# Altium footprint library Board_nonBGA.PcbLib: 21 footprints (part 1 of 2)
Each footprint in its own frame and in the unit in brackets; x right, y up, seen from the top. Pads: shape width x height; smd on the part's side, far side on the other; paste and mask are expansions set on the pad; w line width, h text height; cw(c..) or ccw(c..) is an arc to the next point about the centre after c.
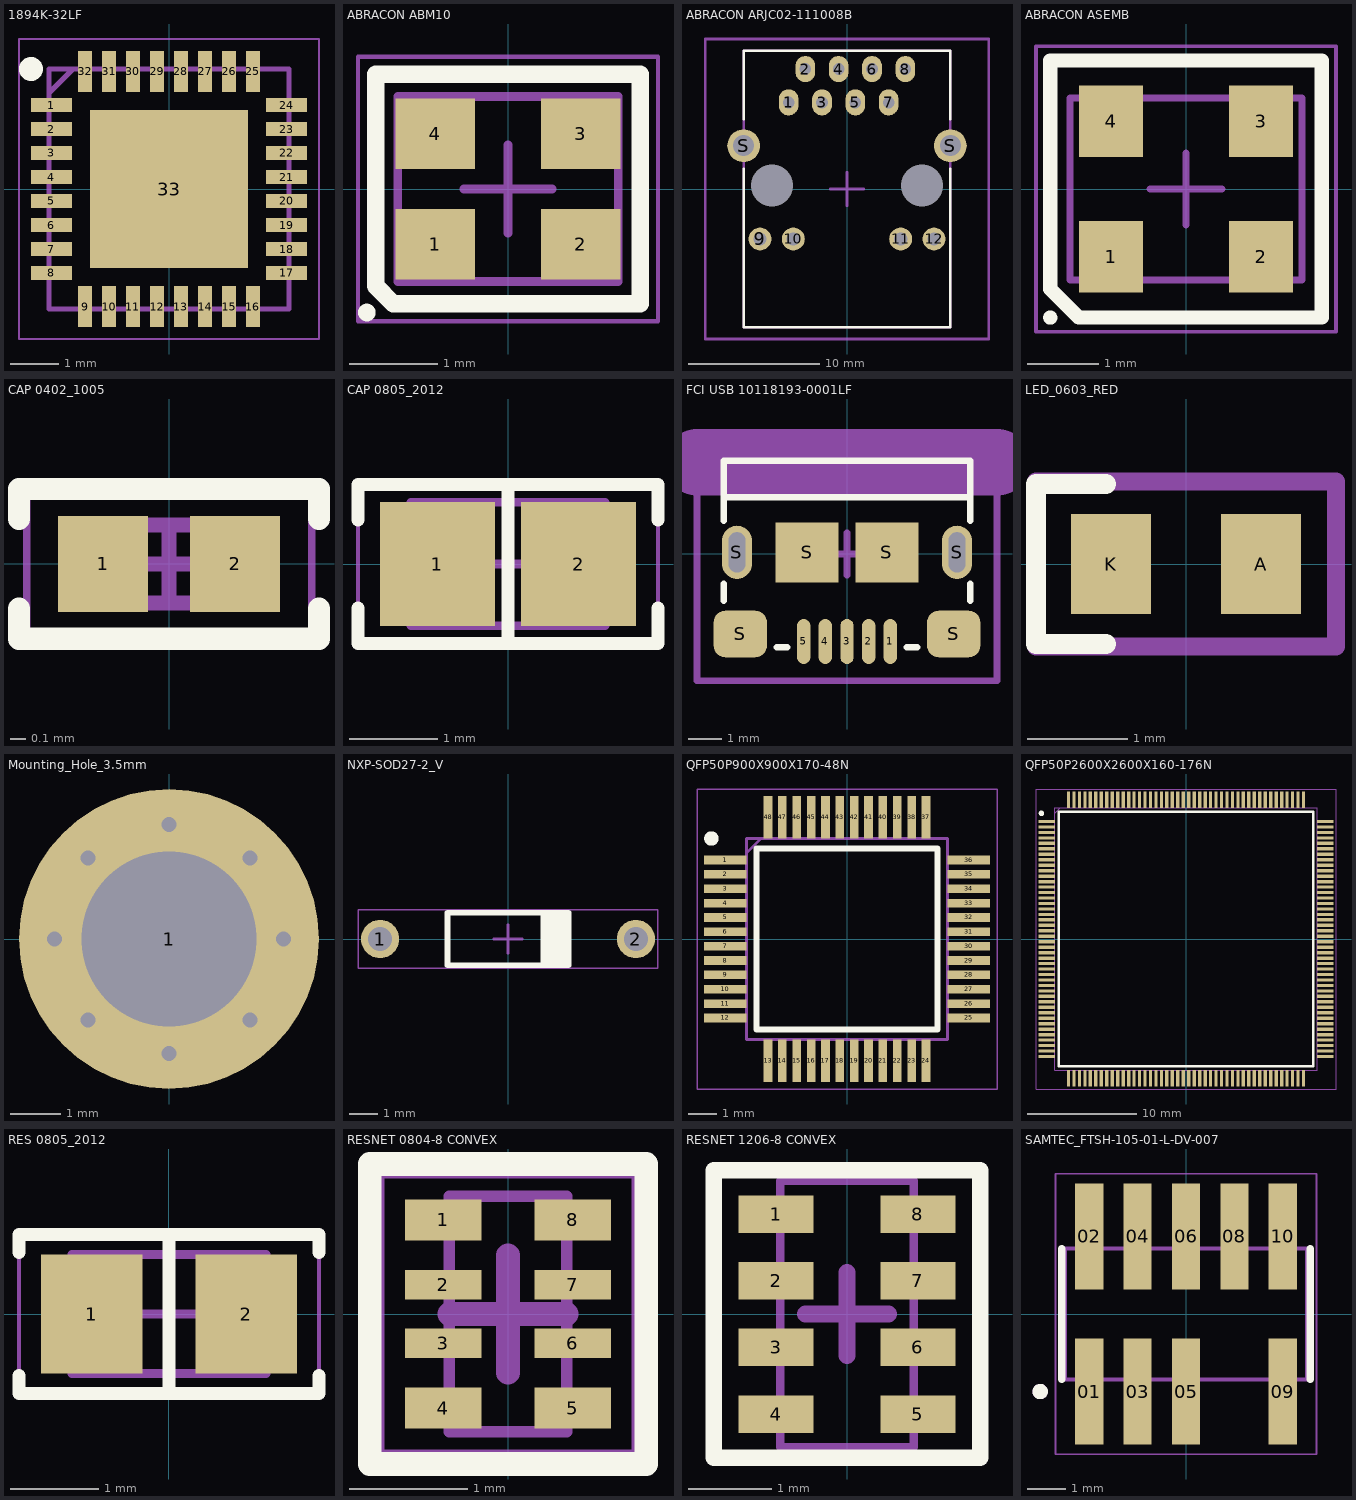
[diagram p0: the footprints below, top view; thin cyan lines are the x and y axes]

## 1894K-32LF [mm]
pads (33):
  rect 0.85x0.3 smd: 1(-2.45,1.75) 2(-2.45,1.25) 3(-2.45,0.75) 4(-2.45,0.25) 5(-2.45,-0.25) 6(-2.45,-0.75) 7(-2.45,-1.25) 8(-2.45,-1.75) 17(2.45,-1.75) 18(2.45,-1.25) 19(2.45,-0.75) 20(2.45,-0.25) 21(2.45,0.25) 22(2.45,0.75) 23(2.45,1.25) 24(2.45,1.75)
  rect 0.3x0.85 smd: 9(-1.75,-2.45) 10(-1.25,-2.45) 11(-0.75,-2.45) 12(-0.25,-2.45) 13(0.25,-2.45) 14(0.75,-2.45) 15(1.25,-2.45) 16(1.75,-2.45) 25(1.75,2.45) 26(1.25,2.45) 27(0.75,2.45) 28(0.25,2.45) 29(-0.25,2.45) 30(-0.75,2.45) 31(-1.25,2.45) 32(-1.75,2.45)
  rect 3.3x3.3 smd: 33(0,0)
Top Overlay:
  circle w0.25: c-2.875,2.5 r0.125
Mechanical 15:
  lines w0.1: -2.5,2 -2,2.5 ; -2.5,-2.5 -2.5,2.5 2.5,2.5 2.5,-2.5 -2.5,-2.5
Mechanical 20:
  lines w0.05: -3.125,-3.125 -3.125,3.125 3.125,3.125 3.125,-3.125 -3.125,-3.125
3D body "1894K-32LF.stp": height 1, standoff 0, extent -2.55,-2.55 2.55,2.55

## ABRACON ABM10 [mm]
pads (4):
  rect 0.9x0.8 smd: 1(-0.825,-0.625) 2(0.825,-0.625) 3(0.825,0.625) 4(-0.825,0.625)
Top Overlay:
  circle w0.1: c-1.6,-1.4 r0.05
  lines w0.2: -1.5,-1.1 -1.5,1.3 1.5,1.3 1.5,-1.3 -1.3,-1.3 -1.5,-1.1
Mechanical 13:
  lines w0.1: -1.25,-1.05 1.25,-1.05 1.25,1.05 -1.25,1.05 -1.25,-1.05
Mechanical 15:
  lines w0.05: -1.7,-1.5 1.7,-1.5 1.7,1.5 -1.7,1.5 -1.7,-1.5
  lines w0.1: -0.5,0 0.5,0 ; 0,-0.5 0,0.5
3D body "Abracon ABM10.STEP": height 0.5, standoff 0, extent -1.275,-1.025 1.275,1.025

## ABRACON ARJC02-111008B [mm]
pads (16):
  oval 1.5x2 hole 0.9: 1(-4.445,6.6) 2(-3.175,9.14) 3(-1.905,6.6) 4(-0.635,9.14) 5(0.635,6.6) 6(1.905,9.14) 7(3.175,6.6) 8(4.445,9.14)
  round 1.75 hole 1.02: 9(-6.63,-3.81) 10(-4.09,-3.81) 11(4.09,-3.81) 12(6.63,-3.81)
  round 0 hole 3.2 unplated: M(-5.715,0.25) M(5.715,0.25)
  round 2.5 hole 1.6: S(-7.875,3.3) S(7.875,3.3)
Top Overlay:
  lines w0.2: -7.874,1.52 -7.874,-10.545 0,-10.545 7.874,-10.545 7.874,1.52 ; -7.874,5.33 -7.874,10.537 0,10.537 7.874,10.537 7.874,5.33
Mechanical 1:
  lines w0.2: -7.874,-10.545 7.874,-10.545 7.874,10.537 -7.874,10.537 -7.874,-10.545
Mechanical 15:
  lines w0.2: -1.27,0 1.27,0 ; 0,-1.27 0,1.27 ; -10.795,-11.43 10.795,-11.43 10.795,11.43 -10.795,11.43 -10.795,-11.43
3D body "Abracon ARJC02-111008B.STEP": height 16.07, standoff -3.7, extent -10.336,-10.555 10.336,10.546

## ABRACON ASEMB [mm]
pads (4):
  rect 0.9x1 smd: 1(-1.05,-0.95) 2(1.05,-0.95) 3(1.05,0.95) 4(-1.05,0.95)
Top Overlay:
  circle w0.1: c-1.9,-1.8 r0.05
  lines w0.2: -1.9,-1.4 -1.9,1.8 1.9,1.8 1.9,-1.8 -1.5,-1.8 -1.9,-1.4
Mechanical 13:
  lines w0.1: -1.625,-1.275 1.625,-1.275 1.625,1.275 -1.625,1.275 -1.625,-1.275
Mechanical 15:
  lines w0.05: -2.1,-2 2.1,-2 2.1,2 -2.1,2 -2.1,-2
  lines w0.1: -0.5,0 0.5,0 ; 0,-0.5 0,0.5
3D body: height 0.85, standoff 0, extent -1.625,-1.275 1.625,1.275

## CAP 0402_1005 [mm]
pads (2):
  rect 0.6x0.64 smd: 1(-0.44,0) 2(0.44,0)
Top Overlay:
  lines w0.15: -1,-0.3 -1,-0.5 1,-0.5 1,-0.3 ; -1,0.3 -1,0.5 1,0.5 1,0.3
Mechanical 13:
  lines w0.1: -0.515,-0.26 -0.515,0.26 0.515,0.26 0.515,-0.26 -0.515,-0.26
Mechanical 15:
  lines w0.05: -0.95,-0.5 -0.95,0.5 0.95,0.5 0.95,-0.5 -0.95,-0.5
  lines w0.1: -0.26,0 0.26,0 ; 0,-0.26 0,0.26
3D body "0402 cap.STEP": height 0.52, standoff 0, extent -0.5,-0.262 0.5,0.262

## CAP 0805_2012 [mm]
pads (2):
  rect 1.3x1.4 smd: 1(-0.8,0) 2(0.8,0)
Top Overlay:
  lines w0.15: -1.7,-0.5 -1.7,-0.9 1.7,-0.9 1.7,-0.5 ; -1.7,0.5 -1.7,0.9 1.7,0.9 1.7,0.5 ; 0,-0.9 0,0.9
Mechanical 13:
  lines w0.1: -1.1,-0.7 1.1,-0.7 1.1,0.7 -1.1,0.7 -1.1,-0.7
Mechanical 15:
  lines w0.05: -1.7,-0.95 1.7,-0.95 1.7,0.95 -1.7,0.95 -1.7,-0.95
  lines w0.1: -0.5,0 0.5,0 ; 0,-0.5 0,0.5
3D body "0805 cap.STEP": height 1.26, standoff -0.02, extent -1,-0.637 1,0.637

## FCI USB 10118193-0001LF [mm]
pads (11):
  oval 0.4x1.35 smd: 1(1.3,-2.625) 2(0.65,-2.625) 3(0,-2.625) 4(-0.65,-2.625) 5(-1.3,-2.625)
  oval 0.9x1.6 hole 0.5 slot 1.2 at 90 deg: S(-3.3,0.05) S(3.3,0.05)
  rrect50% 1.6x1.4 smd: S(-3.2,-2.4) S(3.2,-2.4)
  rect 1.9x1.8 smd: S(-1.2,0.05) S(1.2,0.05)
Top Overlay:
  lines w0.2: -3.7,-1.4 -3.7,-0.9 ; -3.7,1 -3.7,1.7 ; -2.1,-2.8 -1.8,-2.8 ; 1.8,-2.8 2.1,-2.8 ; 3.7,-1.4 3.7,-0.9 ; 3.7,1 3.7,1.7 ; -3.7,1.7 -3.7,2.8 3.7,2.8 3.7,1.7 ; -3.7,1.7 3.7,1.7
Mechanical 15:
  lines w0.2: -0.635,0 0.635,0 ; 0,-0.635 0,0.635 ; -4.5,-3.8 4.5,-3.8 4.5,3.2 -4.5,3.2 -4.5,-3.8
Mechanical 31:
  lines w2: -4.5,2.754 0,2.754 4.5,2.754
3D body "FCI USB 10118193-0001lfc.STEP": height 2.78, standoff -0.82, extent -3.929,-2.9 3.928,2.76

## LED_0603_RED [mm]
pads (2):
  rect 0.8x1 smd: A(0.75,0) K(-0.75,0)
Top Overlay:
  lines w0.2: -0.8,-0.8 -1.5,-0.8 -1.5,0.8 -0.8,0.8
Mechanical 13:
  lines w0.175: -1.5,-0.825 -1.5,0.825 1.5,0.825 1.5,-0.825 -1.5,-0.825
  text "+" at 1.317,0.608 h0.5
  text "'.Designator'" at -5.665,-0.417 h1
3D body "LED_0603_RED.step": height 0.6, standoff 0, extent -0.8,-0.4 0.8,0.4

## Mounting_Hole_3.5mm [mm]
pads (1):
  round 6 hole 3.5: 1(0,0)
via 0,2.286 diameter 0.5 hole 0.3
via -1.616,1.616 diameter 0.5 hole 0.3
via -2.286,0 diameter 0.5 hole 0.3
via -1.616,-1.616 diameter 0.5 hole 0.3
via 0,-2.286 diameter 0.5 hole 0.3
via 1.616,-1.616 diameter 0.5 hole 0.3
via 2.286,0 diameter 0.5 hole 0.3
via 1.616,1.616 diameter 0.5 hole 0.3

## NXP-SOD27-2_V [mm]
pads (2):
  round 1.35 hole 0.85: 1(-4.5,0) 2(4.5,0)
Top Overlay:
  rectangle: 1.143,-0.925 2.125,0.925
  lines w0.2: -2.125,-0.925 2.125,-0.925 2.125,0.925 -2.125,0.925 -2.125,-0.925
Mechanical 13:
  lines w0.1: -2.125,-0.925 -2.125,0.925 2.125,0.925 2.125,-0.925 -2.125,-0.925
Mechanical 15:
  lines w0.05: -5.275,-1.025 5.275,-1.025 5.275,1.025 -5.275,1.025 -5.275,-1.025
  lines w0.1: -0.5,0 0.5,0 ; 0,-0.5 0,0.5
3D body: height 1.2, standoff 0.64, extent 4.223,-0.279 4.78,0.279
3D body: height 1.2, standoff 0.64, extent -4.777,-0.279 -4.22,0.279
3D body: height 1.2, standoff 0.64, extent -4.5,-0.279 -2.125,0.28
3D body: height 1.2, standoff 0.64, extent 2.125,-0.279 4.5,0.279
3D body: height 0.92, standoff -2, extent 4.222,-0.279 4.78,0.28
3D body: height 0.92, standoff -2, extent -4.778,-0.279 -4.22,0.28
3D body: height 1.85, standoff 0, extent -2.125,-0.927 2.125,0.923

## QFP50P900X900X170-48N [mm]
pads (48):
  rect 1.475x0.3 smd: 1(-4.238,2.75) 2(-4.238,2.25) 3(-4.238,1.75) 4(-4.238,1.25) 5(-4.238,0.75) 6(-4.238,0.25) 7(-4.238,-0.25) 8(-4.238,-0.75) 9(-4.238,-1.25) 10(-4.238,-1.75) 11(-4.238,-2.25) 12(-4.238,-2.75) 25(4.238,-2.75) 26(4.238,-2.25) 27(4.238,-1.75) 28(4.238,-1.25) 29(4.238,-0.75) 30(4.238,-0.25) 31(4.238,0.25) 32(4.238,0.75) 33(4.238,1.25) 34(4.238,1.75) 35(4.238,2.25) 36(4.238,2.75)
  rect 0.3x1.475 smd: 13(-2.75,-4.238) 14(-2.25,-4.238) 15(-1.75,-4.238) 16(-1.25,-4.238) 17(-0.75,-4.238) 18(-0.25,-4.238) 19(0.25,-4.238) 20(0.75,-4.238) 21(1.25,-4.238) 22(1.75,-4.238) 23(2.25,-4.238) 24(2.75,-4.238) 37(2.75,4.238) 38(2.25,4.238) 39(1.75,4.238) 40(1.25,4.238) 41(0.75,4.238) 42(0.25,4.238) 43(-0.25,4.238) 44(-0.75,4.238) 45(-1.25,4.238) 46(-1.75,4.238) 47(-2.25,4.238) 48(-2.75,4.238)
Top Overlay:
  circle w0.25: c-4.725,3.5 r0.125
  lines w0.2: -3.15,-3.15 -3.15,3.15 3.15,3.15 3.15,-3.15 -3.15,-3.15
Mechanical 15:
  lines w0.1: -3.5,3 -3,3.5 ; -3.5,-3.5 -3.5,3.5 3.5,3.5 3.5,-3.5 -3.5,-3.5
Mechanical 20:
  lines w0.05: -5.225,-5.225 -5.225,5.225 5.225,5.225 5.225,-5.225 -5.225,-5.225
3D body "R7FA4M2AD3CFL#BA0.stp": height 1.7, standoff 0, extent -4.5,-4.5 4.5,4.5

## QFP50P2600X2600X160-176N [mm]
pads (176):
  rect 1.475x0.3 smd: 1(-12.738,10.75) 2(-12.738,10.25) 3(-12.738,9.75) 4(-12.738,9.25) 5(-12.738,8.75) 6(-12.738,8.25) 7(-12.738,7.75) 8(-12.738,7.25) 9(-12.738,6.75) 10(-12.738,6.25) 11(-12.738,5.75) 12(-12.738,5.25) 13(-12.738,4.75) 14(-12.738,4.25) 15(-12.738,3.75) 16(-12.738,3.25) 17(-12.738,2.75) 18(-12.738,2.25) 19(-12.738,1.75) 20(-12.738,1.25) 21(-12.738,0.75) 22(-12.738,0.25) 23(-12.738,-0.25) 24(-12.738,-0.75) 25(-12.738,-1.25) 26(-12.738,-1.75) 27(-12.738,-2.25) 28(-12.738,-2.75) 29(-12.738,-3.25) 30(-12.738,-3.75) 31(-12.738,-4.25) 32(-12.738,-4.75) 33(-12.738,-5.25) 34(-12.738,-5.75) 35(-12.738,-6.25) 36(-12.738,-6.75) 37(-12.738,-7.25) 38(-12.738,-7.75) 39(-12.738,-8.25) 40(-12.738,-8.75) 41(-12.738,-9.25) 42(-12.738,-9.75) 43(-12.738,-10.25) 44(-12.738,-10.75) 89(12.738,-10.75) 90(12.738,-10.25) 91(12.738,-9.75) 92(12.738,-9.25) 93(12.738,-8.75) 94(12.738,-8.25) 95(12.738,-7.75) 96(12.738,-7.25) 97(12.738,-6.75) 98(12.738,-6.25) 99(12.738,-5.75) 100(12.738,-5.25) 101(12.738,-4.75) 102(12.738,-4.25) 103(12.738,-3.75) 104(12.738,-3.25) 105(12.738,-2.75) 106(12.738,-2.25) 107(12.738,-1.75) 108(12.738,-1.25) 109(12.738,-0.75) 110(12.738,-0.25) 111(12.738,0.25) 112(12.738,0.75) 113(12.738,1.25) 114(12.738,1.75) 115(12.738,2.25) 116(12.738,2.75) 117(12.738,3.25) 118(12.738,3.75) 119(12.738,4.25) 120(12.738,4.75) 121(12.738,5.25) 122(12.738,5.75) 123(12.738,6.25) 124(12.738,6.75) 125(12.738,7.25) 126(12.738,7.75) 127(12.738,8.25) 128(12.738,8.75) 129(12.738,9.25) 130(12.738,9.75) 131(12.738,10.25) 132(12.738,10.75)
  rect 0.3x1.475 smd: 45(-10.75,-12.738) 46(-10.25,-12.738) 47(-9.75,-12.738) 48(-9.25,-12.738) 49(-8.75,-12.738) 50(-8.25,-12.738) 51(-7.75,-12.738) 52(-7.25,-12.738) 53(-6.75,-12.738) 54(-6.25,-12.738) 55(-5.75,-12.738) 56(-5.25,-12.738) 57(-4.75,-12.738) 58(-4.25,-12.738) 59(-3.75,-12.738) 60(-3.25,-12.738) 61(-2.75,-12.738) 62(-2.25,-12.738) 63(-1.75,-12.738) 64(-1.25,-12.738) 65(-0.75,-12.738) 66(-0.25,-12.738) 67(0.25,-12.738) 68(0.75,-12.738) 69(1.25,-12.738) 70(1.75,-12.738) 71(2.25,-12.738) 72(2.75,-12.738) 73(3.25,-12.738) 74(3.75,-12.738) 75(4.25,-12.738) 76(4.75,-12.738) 77(5.25,-12.738) 78(5.75,-12.738) 79(6.25,-12.738) 80(6.75,-12.738) 81(7.25,-12.738) 82(7.75,-12.738) 83(8.25,-12.738) 84(8.75,-12.738) 85(9.25,-12.738) 86(9.75,-12.738) 87(10.25,-12.738) 88(10.75,-12.738) 133(10.75,12.738) 134(10.25,12.738) 135(9.75,12.738) 136(9.25,12.738) 137(8.75,12.738) 138(8.25,12.738) 139(7.75,12.738) 140(7.25,12.738) 141(6.75,12.738) 142(6.25,12.738) 143(5.75,12.738) 144(5.25,12.738) 145(4.75,12.738) 146(4.25,12.738) 147(3.75,12.738) 148(3.25,12.738) 149(2.75,12.738) 150(2.25,12.738) 151(1.75,12.738) 152(1.25,12.738) 153(0.75,12.738) 154(0.25,12.738) 155(-0.25,12.738) 156(-0.75,12.738) 157(-1.25,12.738) 158(-1.75,12.738) 159(-2.25,12.738) 160(-2.75,12.738) 161(-3.25,12.738) 162(-3.75,12.738) 163(-4.25,12.738) 164(-4.75,12.738) 165(-5.25,12.738) 166(-5.75,12.738) 167(-6.25,12.738) 168(-6.75,12.738) 169(-7.25,12.738) 170(-7.75,12.738) 171(-8.25,12.738) 172(-8.75,12.738) 173(-9.25,12.738) 174(-9.75,12.738) 175(-10.25,12.738) 176(-10.75,12.738)
Top Overlay:
  circle w0.25: c-13.225,11.5 r0.125
  lines w0.2: -11.65,-11.65 -11.65,11.65 11.65,11.65 11.65,-11.65 -11.65,-11.65
Mechanical 15:
  lines w0.1: -12,11.5 -11.5,12 ; -12,-12 -12,12 12,12 12,-12 -12,-12
Mechanical 20:
  lines w0.05: -13.725,-13.725 -13.725,13.725 13.725,13.725 13.725,-13.725 -13.725,-13.725
3D body "R7FA8M1AFECFC#BA0.stp": height 1.6, standoff 0, extent -12.989,-13.001 13.011,12.999

## RES 0805_2012 [mm]
pads (2):
  rect 1.15x1.35 smd: 1(-0.875,0) 2(0.875,0)
Top Overlay:
  lines w0.15: -1.7,-0.7 -1.7,-0.9 1.7,-0.9 1.7,-0.7 ; -1.7,0.7 -1.7,0.9 1.7,0.9 1.7,0.7 ; 0,-0.9 0,0.9
Mechanical 13:
  lines w0.1: -1.1,-0.675 1.1,-0.675 1.1,0.675 -1.1,0.675 -1.1,-0.675
Mechanical 15:
  lines w0.05: -1.7,-0.95 1.7,-0.95 1.7,0.95 -1.7,0.95 -1.7,-0.95
  lines w0.1: -0.5,0 0.5,0 ; 0,-0.5 0,0.5
3D body "0805 resistor.STEP": height 0.6, standoff 0, extent -1,-0.625 1,0.625

## RESNET 0804-8 CONVEX [mm]
pads (8):
  rect 0.65x0.35 smd: 1(-0.55,0.8) 4(-0.55,-0.8) 5(0.55,-0.8) 8(0.55,0.8)
  rect 0.65x0.25 smd: 2(-0.55,0.25) 3(-0.55,-0.25) 6(0.55,-0.25) 7(0.55,0.25)
Top Overlay:
  lines w0.2: -1.175,-1.275 1.175,-1.275 1.175,1.275 -1.175,1.275 -1.175,-1.275
Mechanical 13:
  lines w0.1: -0.5,-1 0.5,-1 0.5,1 -0.5,1 -0.5,-1
Mechanical 15:
  lines w0.05: -1.075,-1.175 1.075,-1.175 1.075,1.175 -1.075,1.175 -1.075,-1.175
  lines w0.2: -0.5,0 0.5,0 ; 0,-0.5 0,0.5
3D body "RESNET - 0804 Convex.step": height 0.56, standoff 0, extent -0.525,-1.025 0.525,1.025

## RESNET 1206-8 CONVEX [mm]
pads (8):
  rect 0.9x0.45 smd: 1(-0.85,1.2) 2(-0.85,0.4) 3(-0.85,-0.4) 4(-0.85,-1.2) 5(0.85,-1.2) 6(0.85,-0.4) 7(0.85,0.4) 8(0.85,1.2)
Top Overlay:
  lines w0.2: -1.6,-1.725 -1.6,1.725 1.6,1.725 1.6,-1.725 -1.6,-1.725
Mechanical 13:
  lines w0.1: -0.8,-1.6 -0.8,1.6 0.8,1.6 0.8,-1.6 -0.8,-1.6
Mechanical 15:
  lines w0.05: -1.6,-1.8 -1.6,1.8 1.6,1.8 1.6,-1.8 -1.6,-1.8
  lines w0.2: -0.5,0 0.5,0 ; 0,-0.5 0,0.5
3D body "RESNET - 1206 Convex.step": height 0.71, standoff 0, extent -0.838,-1.625 0.837,1.625

## SAMTEC_FTSH-105-01-L-DV-007 [mm]
pads (9):
  rect 0.74x2.79 smd: 01(-2.54,-2.035) 02(-2.54,2.035) 03(-1.27,-2.035) 04(-1.27,2.035) 05(0,-2.035) 06(0,2.035) 08(1.27,2.035) 09(2.54,-2.035) 10(2.54,2.035)
Top Overlay:
  circle w0.2: c-3.825,-2.035 r0.1
  lines w0.2: -3.26,-1.715 -3.26,1.715 ; 3.26,-1.715 3.26,1.715
Mechanical 13:
  circle w0.2: c-3.825,-2.035 r0.1
  lines w0.1: -3.175,-1.715 -3.175,1.715 ; -3.175,-1.715 3.175,-1.715 ; -3.175,-1.715 -3.175,1.715 ; -3.175,1.715 3.175,1.715 ; -3.175,1.715 3.175,1.715 ; 3.175,-1.715 3.175,1.715 ; 3.175,-1.715 3.175,1.715
Mechanical 15:
  lines w0.05: -3.425,-3.68 3.425,-3.68 3.425,3.68 -3.425,3.68 -3.425,-3.68